# Altium footprint library circuithub-1868d17b7c7d290f44f1b4f2fb116c57d28cee4f.PcbLib: 1 footprints
Each footprint in its own frame and in the unit in brackets; x right, y up, seen from the top. Pads: shape width x height; smd on the part's side, far side on the other; paste and mask are expansions set on the pad; w line width, h text height; cw(c..) or ccw(c..) is an arc to the next point about the centre after c.
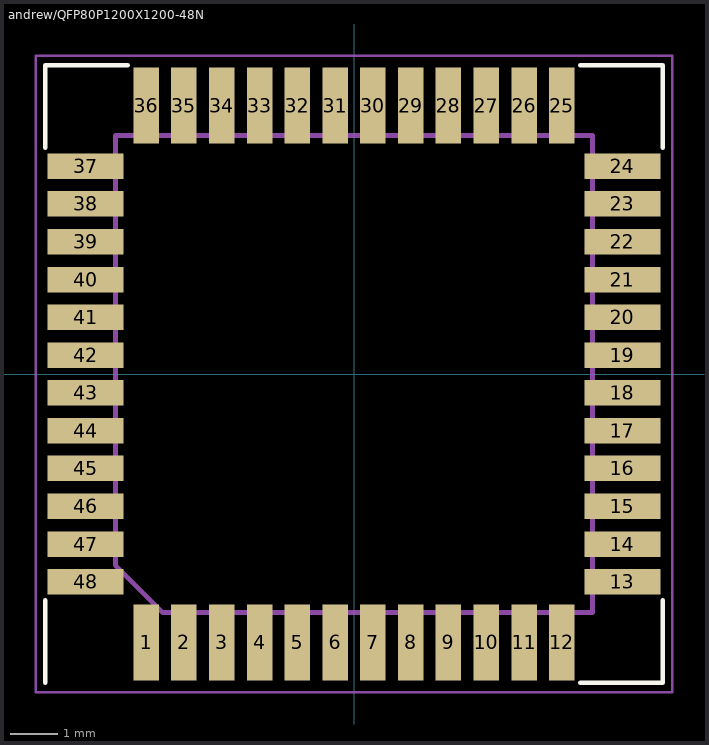
[diagram p0: the footprint, top view; thin cyan lines are the x and y axes]

## andrew/QFP80P1200X1200-48N [mm]
height 1.092
pads (48):
  rect 0.54x1.61 smd: 1(-4.4,-5.68) 2(-3.6,-5.68) 3(-2.8,-5.68) 4(-2,-5.68) 5(-1.2,-5.68) 6(-0.4,-5.68) 7(0.4,-5.68) 8(1.2,-5.68) 9(2,-5.68) 10(2.8,-5.68) 11(3.6,-5.68) 12(4.4,-5.68) 25(4.4,5.68) 26(3.6,5.68) 27(2.8,5.68) 28(2,5.68) 29(1.2,5.68) 30(0.4,5.68) 31(-0.4,5.68) 32(-1.2,5.68) 33(-2,5.68) 34(-2.8,5.68) 35(-3.6,5.68) 36(-4.4,5.68)
  rect 1.61x0.54 smd: 13(5.68,-4.4) 14(5.68,-3.6) 15(5.68,-2.8) 16(5.68,-2) 17(5.68,-1.2) 18(5.68,-0.4) 19(5.68,0.4) 20(5.68,1.2) 21(5.68,2) 22(5.68,2.8) 23(5.68,3.6) 24(5.68,4.4) 37(-5.68,4.4) 38(-5.68,3.6) 39(-5.68,2.8) 40(-5.68,2) 41(-5.68,1.2) 42(-5.68,0.4) 43(-5.68,-0.4) 44(-5.68,-1.2) 45(-5.68,-2) 46(-5.68,-2.8) 47(-5.68,-3.6) 48(-5.68,-4.4)
Top Overlay:
  lines w0.1: -6.535,-6.535 -6.535,-4.79 ; -6.535,4.79 -6.535,6.535 -4.79,6.535 ; 4.79,-6.535 6.535,-6.535 6.535,-4.79 ; 4.79,6.535 6.535,6.535 6.535,4.79
Mechanical 13:
  lines w0.1: -5.05,-4.05 -4.05,-5.05 5.05,-5.05 5.05,5.05 -5.05,5.05 -5.05,-4.05
Mechanical 15:
  lines w0.05: -6.735,-6.735 6.735,-6.735 6.735,6.735 -6.735,6.735 -6.735,-6.735